# Altium footprint library DRClib.PcbLib: 41 footprints (part 1 of 3)
Each footprint in its own frame and in the unit in brackets; x right, y up, seen from the top. Pads: shape width x height; smd on the part's side, far side on the other; paste and mask are expansions set on the pad; w line width, h text height; cw(c..) or ccw(c..) is an arc to the next point about the centre after c.
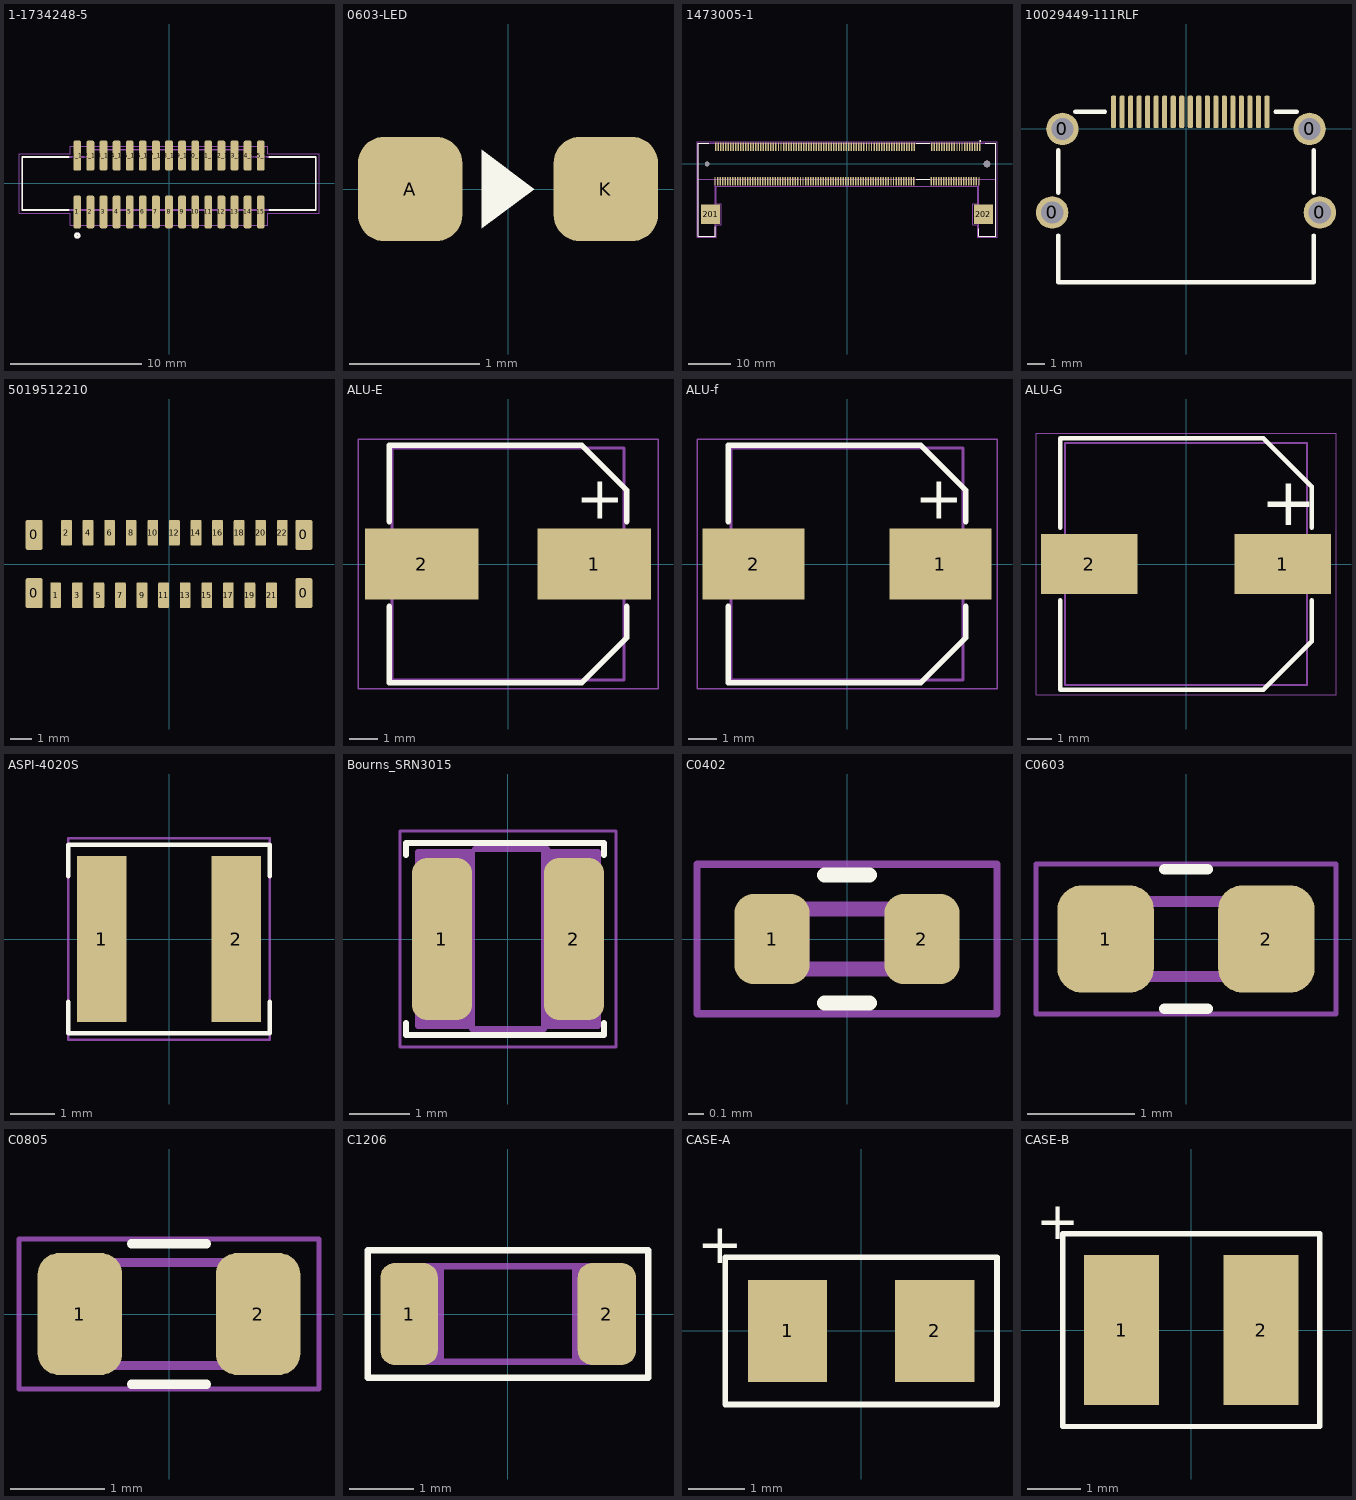
[diagram p0: the footprints below, top view; thin cyan lines are the x and y axes]

## 1-1734248-5 [mm]
pads (30):
  rrect50% 0.6x2.5 smd: 1(-7,-2.2) 2(-6,-2.2) 3(-5,-2.2) 4(-4,-2.2) 5(-3,-2.2) 6(-2,-2.2) 7(-1,-2.2) 8(0,-2.2) 9(1,-2.2) 10(2,-2.2) 11(3,-2.2) 12(4,-2.2) 13(5,-2.2) 14(6,-2.2) 15(7,-2.2)
  rrect50% 0.6x2.3 smd: 1_1(-7,2.1) 2_1(-6,2.1) 3_1(-5,2.1) 4_1(-4,2.1) 5_1(-3,2.1) 6_1(-2,2.1) 7_1(-1,2.1) 8_1(0,2.1) 9_1(1,2.1) 10_1(2,2.1) 11_1(3,2.1) 12_1(4,2.1) 13_1(5,2.1) 14_1(6,2.1) 15_1(7,2.1)
Top Overlay:
  circle w0.2: c-7,-4 r0.141
  lines w0.127: -7.65,-2.05 -11.2,-2.05 -11.2,2 -7.65,2 ; 7.65,-2.05 11.2,-2.05 11.2,2 7.65,2
Mechanical 4:
  circle w0.2: c-7,-4 r0.141
  circle w0.2: c-7,-4 r0.141
  lines w0.127: -11.2,-2.05 -11.2,2 ; -11.2,-2.05 11.2,-2.05 ; -11.2,-2.05 -11.2,2 ; -11.2,-2.05 11.2,-2.05 ; -11.2,2 -6,2 ; -11.2,2 -6,2 ; -6,2 -6,2.55 ; -6,2 -6,2.55 ; -6,2.55 6,2.55 ; -6,2.55 6,2.55 ; 6,2 6,2.55 ; 6,2 11.2,2 ; 6,2 6,2.55 ; 6,2 11.2,2 ; 11.2,-2.05 11.2,2 ; 11.2,-2.05 11.2,2
Mechanical 16:
  lines w0.05: -11.45,-2.3 -11.45,2.25 -7.55,2.25 -7.55,2.8 7.55,2.8 7.55,2.25 11.45,2.25 11.45,-2.3 7.55,-2.3 7.55,-3.2 -7.55,-3.2 -7.55,-2.3 -11.45,-2.3

## 0603-LED [mm]
height 0.8
pads (2):
  rrect50% 0.8x0.8 smd: A(-0.75,0) K(0.75,0)
Top Overlay:
  region: -0.2,-0.3 -0.2,0.3 0.2,0
3D body: height 0.6, standoff 0.3, extent -0.5,-0.4 0.5,0.4
3D body: height 0.3, standoff 0, extent -0.8,-0.4 0.8,0.4

## 1473005-1 [mm]
pads (204):
  rect 0.35x2 smd: 1(31.65,4.1) 2(31.5,-4.1) 3(31.05,4.1) 4(30.9,-4.1) 5(30.45,4.1) 6(30.3,-4.1) 7(29.85,4.1) 8(29.7,-4.1) 9(29.25,4.1) 10(29.1,-4.1) 11(28.65,4.1) 12(28.5,-4.1) 13(28.05,4.1) 14(27.9,-4.1) 15(27.45,4.1) 16(27.3,-4.1) 17(26.85,4.1) 18(26.7,-4.1) 19(26.25,4.1) 20(26.1,-4.1) 21(25.65,4.1) 22(25.5,-4.1) 23(25.05,4.1) 24(24.9,-4.1) 25(24.45,4.1) 26(24.3,-4.1) 27(23.85,4.1) 28(23.7,-4.1) 29(23.25,4.1) 30(23.1,-4.1) 31(22.65,4.1) 32(22.5,-4.1) 33(22.05,4.1) 34(21.9,-4.1) 35(21.45,4.1) 36(21.3,-4.1) 37(20.85,4.1) 38(20.7,-4.1) 39(20.25,4.1) 40(20.1,-4.1) 41(16.05,4.1) 42(15.9,-4.1) 43(15.45,4.1) 44(15.3,-4.1) 45(14.85,4.1) 46(14.7,-4.1) 47(14.25,4.1) 48(14.1,-4.1) 49(13.65,4.1) 50(13.5,-4.1) 51(13.05,4.1) 52(12.9,-4.1) 53(12.45,4.1) 54(12.3,-4.1) 55(11.85,4.1) 56(11.7,-4.1) 57(11.25,4.1) 58(11.1,-4.1) 59(10.65,4.1) 60(10.5,-4.1) 61(10.05,4.1) 62(9.9,-4.1) 63(9.45,4.1) 64(9.3,-4.1) 65(8.85,4.1) 66(8.7,-4.1) 67(8.25,4.1) 68(8.1,-4.1) 69(7.65,4.1) 70(7.5,-4.1) 71(7.05,4.1) 72(6.9,-4.1) 73(6.45,4.1) 74(6.3,-4.1) 75(5.85,4.1) 76(5.7,-4.1) 77(5.25,4.1) 78(5.1,-4.1) 79(4.65,4.1) 80(4.5,-4.1) 81(4.05,4.1) 82(3.9,-4.1) 83(3.45,4.1) 84(3.3,-4.1) 85(2.85,4.1) 86(2.7,-4.1) 87(2.25,4.1) 88(2.1,-4.1) 89(1.65,4.1) 90(1.5,-4.1) 91(1.05,4.1) 92(0.9,-4.1) 93(0.45,4.1) 94(0.3,-4.1) 95(-0.15,4.1) 96(-0.3,-4.1) 97(-0.75,4.1) 98(-0.9,-4.1) 99(-1.35,4.1) 100(-1.5,-4.1) 101(-1.95,4.1) 102(-2.1,-4.1) 103(-2.55,4.1) 104(-2.7,-4.1) 105(-3.15,4.1) 106(-3.3,-4.1) 107(-3.75,4.1) 108(-3.9,-4.1) 109(-4.35,4.1) 110(-4.5,-4.1) 111(-4.95,4.1) 112(-5.1,-4.1) 113(-5.55,4.1) 114(-5.7,-4.1) 115(-6.15,4.1) 116(-6.3,-4.1) 117(-6.75,4.1) 118(-6.9,-4.1) 119(-7.35,4.1) 120(-7.5,-4.1) 121(-7.95,4.1) 122(-8.1,-4.1) 123(-8.55,4.1) 124(-8.7,-4.1) 125(-9.15,4.1) 126(-9.3,-4.1) 127(-9.75,4.1) 128(-9.9,-4.1) 129(-10.35,4.1) 130(-10.5,-4.1) 131(-10.95,4.1) 132(-11.1,-4.1) 133(-11.55,4.1) 134(-11.7,-4.1) 135(-12.15,4.1) 136(-12.3,-4.1) 137(-12.75,4.1) 138(-12.9,-4.1) 139(-13.35,4.1) 140(-13.5,-4.1) 141(-13.95,4.1) 142(-14.1,-4.1) 143(-14.55,4.1) 144(-14.7,-4.1) 145(-15.15,4.1) 146(-15.3,-4.1) 147(-15.75,4.1) 148(-15.9,-4.1) 149(-16.35,4.1) 150(-16.5,-4.1) 151(-16.95,4.1) 152(-17.1,-4.1) 153(-17.55,4.1) 154(-17.7,-4.1) 155(-18.15,4.1) 156(-18.3,-4.1) 157(-18.75,4.1) 158(-18.9,-4.1) 159(-19.35,4.1) 160(-19.5,-4.1) 161(-19.95,4.1) 162(-20.1,-4.1) 163(-20.55,4.1) 164(-20.7,-4.1) 165(-21.15,4.1) 166(-21.3,-4.1) 167(-21.75,4.1) 168(-21.9,-4.1) 169(-22.35,4.1) 170(-22.5,-4.1) 171(-22.95,4.1) 172(-23.1,-4.1) 173(-23.55,4.1) 174(-23.7,-4.1) 175(-24.15,4.1) 176(-24.3,-4.1) 177(-24.75,4.1) 178(-24.9,-4.1) 179(-25.35,4.1) 180(-25.5,-4.1) 181(-25.95,4.1) 182(-26.1,-4.1) 183(-26.55,4.1) 184(-26.7,-4.1) 185(-27.15,4.1) 186(-27.3,-4.1) 187(-27.75,4.1) 188(-27.9,-4.1) 189(-28.35,4.1) 190(-28.5,-4.1) 191(-28.95,4.1) 192(-29.1,-4.1) 193(-29.55,4.1) 194(-29.7,-4.1) 195(-30.15,4.1) 196(-30.3,-4.1) 197(-30.75,4.1) 198(-30.9,-4.1) 199(-31.35,4.1) 200(-31.5,-4.1)
  rect 4.5x4.6 smd: 201(-32.55,-12) 202(32.55,-12)
  round 1.1 hole 1.1 unplated: None(-33.4,0)
  round 1.6 hole 1.6 unplated: None(33.4,0)
Top Overlay:
  circle w0.2: c31.8,5.5 r0.1
  lines w0.152: -33.02,5 -35.55,5 -35.55,-17.3 -31.45,-17.3 -31.45,-15 ; 16.51,-3.7 19.8,-3.7 ; 16.51,5 19.8,5 ; 31.45,-15.5 31.45,-17.3 35.55,-17.3 35.55,5 33.02,5
Mechanical 4:
  lines w0.152: -35.55,-17.3 -31.45,-17.3 ; -35.55,-17.3 -35.55,-3.7 ; -35.55,-17.3 -31.45,-17.3 ; -35.55,-17.3 -35.55,-3.7 ; -35.55,-3.7 -31.45,-3.7 ; -35.55,-3.7 -35.55,5 ; -35.55,-3.7 -31.45,-3.7 ; -35.55,-3.7 -35.55,5 ; -35.55,5 35.55,5 ; -35.55,5 35.55,5 ; -31.45,-17.3 -31.45,-3.7 ; -31.45,-17.3 -31.45,-3.7 ; -31.45,-3.7 31.45,-3.7 ; -31.45,-3.7 31.45,-3.7 ; 31.45,-17.3 35.55,-17.3 ; 31.45,-17.3 31.45,-3.7 ; 31.45,-17.3 35.55,-17.3 ; 31.45,-17.3 31.45,-3.7 ; 31.45,-3.7 35.55,-3.7 ; 31.45,-3.7 35.55,-3.7 ; 35.55,-17.3 35.55,-3.7 ; 35.55,-17.3 35.55,-3.7 ; 35.55,-3.7 35.55,5 ; 35.55,-3.7 35.55,5
Mechanical 16:
  lines w0.05: -35.8,-17.55 -35.8,5.35 35.8,5.35 35.8,-17.5 31.2,-17.5 31.2,-14.55 30.05,-14.55 30.05,-9.45 31.2,-9.45 31.2,-5.35 -31.2,-5.35 -31.2,-9.45 -30.05,-9.45 -30.05,-14.55 -31.2,-14.55 -31.2,-17.55 -35.8,-17.55
3D body "c-1473005-1-j1-3d.stp": height 5.25, standoff -0.65, extent -35.75,-21.05 35.75,5

## 10029449-111RLF [mm] "CONN RCPT 1.4 HDMI 19POS SMD R/A"
pads (23):
  round 1.9 hole 1.3: 0(-7.85,-4.9) 0(-7.25,0) 0(7.25,0) 0(7.85,-4.9)
  rrect50% 0.3x1.9 smd: 1(4.75,1) 2(4.25,1) 3(3.75,1) 4(3.25,1) 5(2.75,1) 6(2.25,1) 7(1.75,1) 8(1.25,1) 9(0.75,1) 10(0.25,1) 11(-0.25,1) 12(-0.75,1) 13(-1.25,1) 14(-1.75,1) 15(-2.25,1) 16(-2.75,1) 17(-3.25,1) 18(-3.75,1) 19(-4.25,1)
Top Overlay:
  lines w0.254: -7.5,-6.25 -7.5,-9 7.5,-9 7.5,-6.25 ; -7.5,-3.75 -7.5,-1.25 ; -6.5,1 -4.75,1 ; 5.25,1 6.5,1 ; 7.5,-3.75 7.5,-1.25

## 5019512210 [mm] "CONN FFC VERT 22POS 0.50MM SMD"
pads (26):
  rrect25% 0.8x1.4 smd: 0(-6.25,-1.35) 0(-6.25,1.35) 0(6.25,-1.35) 0(6.25,1.35)
  rrect25% 0.5x1.2 smd: 1(-5.25,-1.45) 2(-4.75,1.45) 3(-4.25,-1.45) 4(-3.75,1.45) 5(-3.25,-1.45) 6(-2.75,1.45) 7(-2.25,-1.45) 8(-1.75,1.45) 9(-1.25,-1.45) 10(-0.75,1.45) 11(-0.25,-1.45) 12(0.25,1.45) 13(0.75,-1.45) 14(1.25,1.45) 15(1.75,-1.45) 16(2.25,1.45) 17(2.75,-1.45) 18(3.25,1.45) 19(3.75,-1.45) 20(4.25,1.45) 21(4.75,-1.45) 22(5.25,1.45)
3D body "5019512210.stp": height 4.64, standoff 0.04, extent -6.9,-1.85 6.9,2.284

## ALU-E [mm]
pads (2):
  rect 4x2.5 smd: 1(3.05,0) 2(-3.05,0)
Top Overlay:
  lines w0.2: -4.2,-1.5 -4.2,-4.2 2.6,-4.2 4.2,-2.6 4.2,-1.5 ; -4.2,1.5 -4.2,4.2 2.6,4.2 4.2,2.6 4.2,1.5
  text "+" at 2.4,1.6 h1.5
Mechanical 13:
  lines w0.1: -4.1,-4.1 -4.1,4.1 4.1,4.1 4.1,-4.1 -4.1,-4.1
Mechanical 15:
  lines w0.05: -5.3,-4.4 -5.3,4.4 5.3,4.4 5.3,-4.4 -5.3,-4.4
  text ".Designator" at -4.3,-0.5 h2
3D body "User_Library-ALU-E[1].STEP": height 6.2, standoff 0, extent -4.5,-4.15 4.5,4.15

## ALU-f [mm]
pads (2):
  rect 3.6x2.5 smd: 1(3.3,0) 2(-3.3,0)
Top Overlay:
  lines w0.2: -4.2,-1.5 -4.2,-4.2 2.6,-4.2 4.2,-2.6 4.2,-1.5 ; -4.2,1.5 -4.2,4.2 2.6,4.2 4.2,2.6 4.2,1.5
  text "+" at 2.4,1.6 h1.5
Mechanical 13:
  lines w0.1: -4.1,-4.1 4.1,-4.1 4.1,4.1 -4.1,4.1 -4.1,-4.1
Mechanical 15:
  lines w0.05: -5.3,-4.4 5.3,-4.4 5.3,4.4 -5.3,4.4 -5.3,-4.4
  text ".Designator" at -4.3,-0.5 h2
3D body "User Library-ALU-F.STEP": height 10.2, standoff 0, extent -4.95,-4.15 4.95,4.15

## ALU-G [mm]
pads (2):
  rect 4x2.5 smd: 1(4,0) 2(-4,0)
Top Overlay:
  lines w0.2: -5.2,-1.5 -5.2,-5.2 3.2,-5.2 5.2,-3.2 5.2,-1.5 ; -5.2,1.5 -5.2,5.2 3.2,5.2 5.2,3.2 5.2,1.5
  text "+" at 3.1,1.6 h2
Mechanical 13:
  lines w0.1: -5,-5 5,-5 5,5 -5,5 -5,-5
Mechanical 15:
  lines w0.05: -6.2,-5.4 6.2,-5.4 6.2,5.4 -6.2,5.4 -6.2,-5.4
  text ".Designator" at -4.3,-0.5 h2
3D body "User Library-ALU-G.STEP": height 10.2, standoff 0, extent -5.8,-5.15 5.8,5.15

## ASPI-4020S [mm] "1µH Shielded Wirewound Inductor 2.15A 29 mOhm Nonstandard"
height 2
pads (2):
  rect 1.1x3.7 smd mask+0: 1(-1.5,0) 2(1.5,0)
Top Overlay:
  lines w0.1: -2.25,-1.4 -2.25,-2.1 2.25,-2.1 2.25,-1.4 ; -2.25,1.4 -2.25,2.1 2.25,2.1 2.25,1.4
Mechanical 15:
  lines w0.05: -2.25,-2.25 2.25,-2.25 2.25,2.25 -2.25,2.25 -2.25,-2.25
3D body "ASPI-4020S.STEP": height 2, standoff 0, extent -2,-2 2,2

## Bourns_SRN3015 [mm]
pads (2):
  rrect50% 1x2.7 smd mask+0: 1(-1.1,0) 2(1.1,0)
Top Overlay:
  lines w0.1: -1.7,-1.4 -1.7,-1.6 1.6,-1.6 1.6,-1.4 ; -1.7,1.4 -1.7,1.6 1.6,1.6 1.6,1.4
Mechanical 13:
  region: -0.6,-1.45 -0.6,1.45 -1.5,1.45 -1.5,-1.45
  region: 1.5,-1.45 1.5,1.45 0.6,1.45 0.6,-1.45
  lines w0.1: -0.6,-1.5 0.6,-1.5 ; -0.55,1.5 0.65,1.5 ; -1.5,-1.45 -1.5,1.45 -0.6,1.45 -0.6,-1.45 -1.5,-1.45 ; 0.6,-1.45 1.5,-1.45 1.5,1.45 0.6,1.45 0.6,-1.45
Mechanical 15:
  lines w0.05: -1.8,-1.8 -1.8,1.8 1.8,1.8 1.8,-1.8 -1.8,-1.8
  text ".Designator" at -1.6,-0.2 h0.75
3D body "srn3015.stp": height 1.5, standoff 0, extent -1.5,-1.5 1.5,1.5

## C0402 [mm]
pads (2):
  rrect50% 0.5x0.6 smd: 1(-0.5,0) 2(0.5,0)
Top Overlay:
  lines w0.1: -0.15,-0.425 0.15,-0.425 ; -0.15,0.425 0.15,0.425
Mechanical 13:
  rectangle: -0.25,-0.25 0.25,-0.15
  rectangle: -0.5,-0.25 -0.25,0.25
  rectangle: -0.25,0.15 0.25,0.25
  region: 0.5,0.25 0.25,0.25 0.25,-0.25 0.5,-0.25
Mechanical 15:
  lines w0.05: -1,-0.5 1,-0.5 1,0.5 -1,0.5 -1,-0.5
  text ".Designator" at -0.8,-0.1 h0.5
3D body "User Library-User Library-cap0402_cap0402_body-1.step": height 0.49, standoff -0.01, extent -0.5,-0.25 0.5,0.25

## C0603 [mm]
pads (2):
  rrect50% 0.9x1 smd: 1(-0.75,0) 2(0.75,0)
Top Overlay:
  lines w0.1: -0.2,-0.65 0.2,-0.65 ; -0.2,0.65 0.2,0.65
Mechanical 13:
  rectangle: -0.5,0.3 0.5,0.4
  rectangle: -0.5,-0.4 0.5,-0.3
  rectangle: 0.5,-0.4 0.8,0.4
  rectangle: -0.8,-0.4 -0.5,0.4
Mechanical 15:
  lines w0.05: -1.4,-0.7 1.4,-0.7 1.4,0.7 -1.4,0.7 -1.4,-0.7
  text ".Designator" at -1.1,-0.1 h0.5
3D body "cap_0603.STEP": height 0.87, standoff -0.01, extent -0.8,-0.405 0.8,0.405

## C0805 [mm]
pads (2):
  rrect50% 0.9x1.3 smd: 1(-0.95,0) 2(0.95,0)
Top Overlay:
  lines w0.1: -0.4,-0.75 0.4,-0.75 ; -0.4,0.75 0.4,0.75
Mechanical 13:
  rectangle: -0.6,0.5 0.6,0.6
  rectangle: -0.6,-0.6 0.6,-0.5
  rectangle: 0.6,-0.6 1,0.6
  rectangle: -1,-0.6 -0.6,0.6
Mechanical 15:
  lines w0.05: -1.6,-0.8 1.6,-0.8 1.6,0.8 -1.6,0.8 -1.6,-0.8
  text ".Designator" at -1.4,-0.2 h0.75
3D body "cap_0805.STEP": height 0.78, standoff 0, extent -1,-0.625 1,0.625

## C1206 [mm]
pads (2):
  rrect50% 0.9x1.6 smd: 1(-1.55,0)
  rrect50% 0.914x1.6 smd: 2(1.55,0)
Top Overlay:
  lines w0.1: -2.2,-1 -2.2,1 2.2,1 2.2,-1 -2.2,-1
Mechanical 13:
  region: 1,-0.7 -1,-0.7 -1,-0.8 1,-0.8
  rectangle: -1,0.7 1,0.8
  rectangle: -1.6,-0.8 -1,0.8
  region: 1.6,0.8 1,0.8 1,-0.8 1.6,-0.8
Mechanical 15:
  lines w0.05: -2.2,-1 -2.2,1 2.2,1 2.2,-1 -2.2,-1
  text ".Designator" at -1.9,-0.2 h1
3D body "User Library-1206 SMD Capacitor.step": height 1, standoff 0, extent -1.6,-0.8 1.6,0.8

## CASE-A [mm] "Vishay Case A"
height 1.6
pads (2):
  rect 1.4x1.8 smd: 1(-1.3,0) 2(1.3,0)
Top Overlay:
  lines w0.1: -2.4,-1.3 2.4,-1.3 2.4,1.3 -2.4,1.3 -2.4,-1.3
  text "+" at -2.9,1.2 h0.7
Mechanical 15:
  lines w0.05: -2.4,-1.3 2.4,-1.3 2.4,1.3 -2.4,1.3 -2.4,-1.3
  text ".Designator" at -1.9,-0.2 h1
3D body "A__A180.stp": height 1.7, standoff -0.01, extent -1.7,-0.84 1.7,0.84

## CASE-B [mm] "AVX 'J' Lead"
height 1.9
pads (2):
  rect 1.4x2.8 smd: 1(-1.3,0) 2(1.3,0)
Top Overlay:
  lines w0.1: -2.4,-1.8 2.4,-1.8 2.4,1.8 -2.4,1.8 -2.4,-1.8
  text "+" at -2.9,1.7 h0.7
Mechanical 15:
  lines w0.05: -2.4,-1.8 2.4,-1.8 2.4,1.8 -2.4,1.8 -2.4,-1.8
  text ".Designator" at -1.9,-0.2 h1
3D body "B__B126.stp": height 2.06, standoff 0.03, extent -1.85,-1.465 1.85,1.465